# Altium integrated library TI Power Management Non Current Limited Load Switch.IntLib: 14 symbols
Pins are listed as number, name and electrical type; pins without a type are passive.

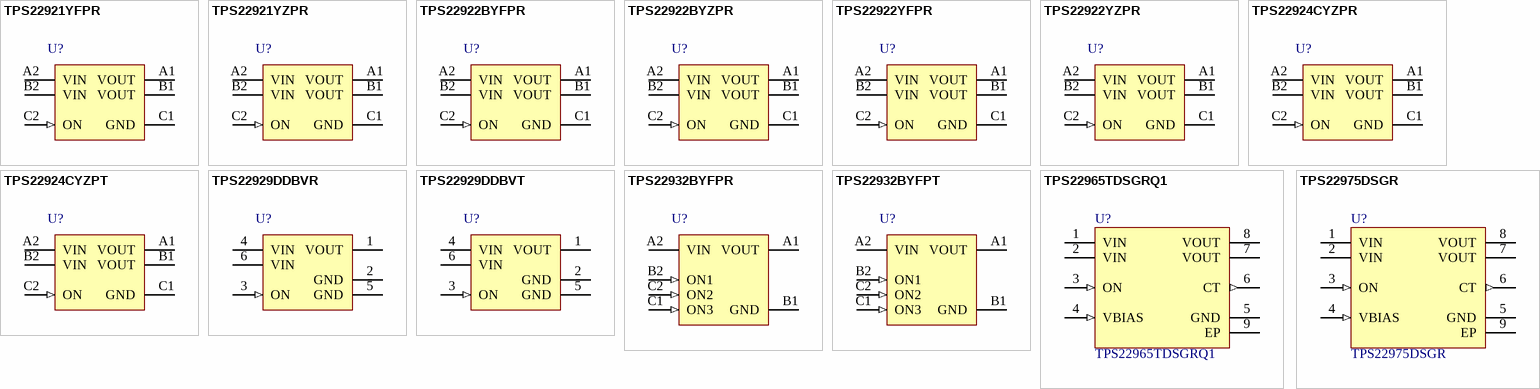
[diagram p0: symbols TPS22921YFPR to TPS22975DSGR]

## TPS22921YFPR
designator U?
Low Input Voltage Load Switch, 1.8 V Logic Compatible, 2 A, 0.9 to 3.6 V, 6-pin DSBGA (YFP), Green (RoHS & no Sb/Br); Manufacturer: Texas Instruments; PartNumber: TPS22921YFPR; Control Logic: 1.8-V Logic Compatible; HBM ESD(kV): 3; Iin(nA): 880; Imax(A): 2; Output Rise Time(µS): 30; rON @1.8V(mOhm): 75; SubFamily: Non Current Limited Load Switch; Vin(V): 0.9 - 3.6; DatasheetVersion: SLVS749A; PackageVersion: revQ, Sep-2011; PackageReference: YFP6; PackageDescription: 6-Ball Die-Size Ball Grid Array, 1.16 x 0.76 mm Body, 0.4 mm Pitch, Pb-Free; Supplier 1: Digi-Key; Supplier Part Number 1: 296-24675-2-ND; Supplier 2: Digi-Key; Supplier Part Number 2: 296-24675-1-ND; Supplier 3: Digi-Key; Supplier Part Number 3: 296-24675-6-ND; Supplier 4: Mouser; Supplier Part Number 4: 595-TPS22921YFPR; Eco-Plan: Green (RoHS & no Sb/Br); Quick Output Discharge Transistor: No; Mounting Technology: Surface Mount; ComponentLink1Description: Datasheet; ComponentLink1URL: http://www.ti.com/general/docs/lit/getliterature.tsp?genericPartNumber=TPS22921&fileType=pdf
footprint YFP6 (BGA, 6-Leads, Body 1.16x0.76mm, Pitch 0.4mm)
pins: A1 VOUT (power) "Switch output", A2 VIN (power) "Switch input", B1 VOUT (power) "Switch output", B2 VIN (power) "Switch input", C1 GND (power) "Ground", C2 ON (in) "Switch control input, active high. Do not leave floating"

## TPS22921YZPR
designator U?
Low Input Voltage Load Switch, 1.8 V Logic Compatible, 2 A, 0.9 to 3.6 V, 6-pin DSBGA (YFP), Green (RoHS & no Sb/Br); Manufacturer: Texas Instruments; PartNumber: TPS22921YZPR; Control Logic: 1.8-V Logic Compatible; HBM ESD(kV): 3; Iin(nA): 880; Imax(A): 2; Output Rise Time(µS): 30; rON @1.8V(mOhm): 75; SubFamily: Non Current Limited Load Switch; Vin(V): 0.9 - 3.6; DatasheetVersion: SLVS749A; PackageVersion: revI, Feb-2012; PackageReference: YZP6; PackageDescription: 6-Ball Die-Size Ball Grid Array, 1.4 x 0.9 mm Body, 0.5 mm Pitch, Pb-Free; Supplier 1: Digi-Key; Supplier Part Number 1: 296-24473-2-ND; Supplier 2: Digi-Key; Supplier Part Number 2: 296-24473-1-ND; Supplier 3: Digi-Key; Supplier Part Number 3: 296-24473-6-ND; Supplier 4: Newark; Supplier Part Number 4: 34P6475; Supplier 5: Mouser; Supplier Part Number 5: 595-TPS22921YZPR; Eco-Plan: Green (RoHS & no Sb/Br); Quick Output Discharge Transistor: No; Mounting Technology: Surface Mount; ComponentLink1Description: Datasheet; ComponentLink1URL: http://www.ti.com/general/docs/lit/getliterature.tsp?genericPartNumber=TPS22921&fileType=pdf
footprint YZP6 (BGA, 6-Leads, Body 1.4x0.9mm, Pitch 0.5mm)
pins: A1 VOUT (power) "Switch output", A2 VIN (power) "Switch input", B1 VOUT (power) "Switch output", B2 VIN (power) "Switch input", C1 GND (power) "Ground", C2 ON (in) "Switch control input, active high. Do not leave floating"

## TPS22922BYFPR
designator U?
Low Input Voltage, Ultra-Low RDS(ON) Load Switch, 1.8 V Logic Compatible, 2 A, 0.9 to 3.6 V, 6-pin DSBGA (YFP), Green (RoHS & no Sb/Br); Manufacturer: Texas Instruments; PartNumber: TPS22922BYFPR; Control Logic: 1.8-V Logic Compatible; HBM ESD(kV): 3; Iin(nA): 880; Imax(A): 2; Output Rise Time(µS): 200; Quick Output Discharge Transistor: Yes; rON @1.8V(mOhm): 75; SubFamily: Non Current Limited Load Switch; Vin(V): 0.9 - 3.6; DatasheetVersion: SLVS749A; PackageVersion: revQ, Sep-2011; PackageReference: YFP6; PackageDescription: 6-Ball Die-Size Ball Grid Array, 1.16 x 0.76 mm Body, 0.4 mm Pitch, Pb-Free; Supplier 1: Digi-Key; Supplier Part Number 1: 296-24676-2-ND; Supplier 2: Digi-Key; Supplier Part Number 2: 296-24676-1-ND; Supplier 3: Digi-Key; Supplier Part Number 3: 296-24676-6-ND; Supplier 4: Farnell; Supplier Part Number 4: 1755625; Supplier 5: Newark; Supplier Part Number 5: 99R2044; Supplier 6: Newark; Supplier Part Number 6: 52P6808; Supplier 7: Mouser; Supplier Part Number 7: 595-TPS22922BYFPR; Eco-Plan: Green (RoHS & no Sb/Br); Mounting Technology: Surface Mount; ComponentLink1Description: Datasheet; ComponentLink1URL: http://www.ti.com/general/docs/lit/getliterature.tsp?genericPartNumber=TPS22922B&fileType=pdf
footprint YFP6 (BGA, 6-Leads, Body 1.16x0.76mm, Pitch 0.4mm)
pins: A1 VOUT (power) "Switch output", A2 VIN (power) "Switch input", B1 VOUT (power) "Switch output", B2 VIN (power) "Switch input", C1 GND (power) "Ground", C2 ON (in) "Switch control input, active high. Do not leave floating"

## TPS22922BYZPR
designator U?
Low Input Voltage, Ultra-Low RDS(ON) Load Switch, 1.8 V Logic Compatible, 2 A, 0.9 to 3.6 V, -40 to 85 degC, 6-pin DSBGA (YZP), Green (RoHS & no Sb/Br); Manufacturer: Texas Instruments; PartNumber: TPS22922BYZPR; Control Logic: 1.8-V Logic Compatible; HBM ESD(kV): 3; Iin(nA): 880; Imax(A): 2; Output Rise Time(µS): 200; Quick Output Discharge Transistor: Yes; rON @1.8V(mOhm): 75; SubFamily: Non Current Limited Load Switch; Vin(V): 0.9 - 3.6; DatasheetVersion: SLVS749A; PackageVersion: revI, Feb-2012; PackageReference: YZP6; PackageDescription: 6-Ball Die-Size Ball Grid Array, 1.4 x 0.9 mm Body, 0.5 mm Pitch, Pb-Free; Supplier 1: Digi-Key; Supplier Part Number 1: 296-24097-2-ND; Supplier 2: Digi-Key; Supplier Part Number 2: 296-24097-1-ND; Supplier 3: Digi-Key; Supplier Part Number 3: 296-24097-6-ND; Supplier 4: Newark; Supplier Part Number 4: 45P8256; Supplier 5: Mouser; Supplier Part Number 5: 595-TPS22922BYZPR; Eco-Plan: Green (RoHS & no Sb/Br); Mounting Technology: Surface Mount; ComponentLink1Description: Datasheet; ComponentLink1URL: http://www.ti.com/general/docs/lit/getliterature.tsp?genericPartNumber=TPS22922B&fileType=pdf
footprint YZP6 (BGA, 6-Leads, Body 1.4x0.9mm, Pitch 0.5mm)
pins: A1 VOUT (power) "Switch output", A2 VIN (power) "Switch input", B1 VOUT (power) "Switch output", B2 VIN (power) "Switch input", C1 GND (power) "Ground", C2 ON (in) "Switch control input, active high. Do not leave floating"

## TPS22922YFPR
designator U?
Low Input Voltage, Ultra-Low RDS(ON) Load Switch, 1.8 V Logic Compatible, 0.9 to 3.6 V, 6-pin DSBGA (YFP), Green (RoHS & no Sb/Br); Manufacturer: Texas Instruments; PartNumber: TPS22922YFPR; Control Logic: 1.8-V Logic Compatible; HBM ESD(kV): 3; Iin(nA): 880; Imax(A): 2; Output Rise Time(µS): 30; Quick Output Discharge Transistor: Yes; rON @1.8V(mOhm): 75; SubFamily: Non Current Limited Load Switch; Vin(V): 0.9 - 3.6; DatasheetVersion: SLVS749A; PackageVersion: revQ, Sep-2011; PackageReference: YFP6; PackageDescription: 6-Ball Die-Size Ball Grid Array, 1.16 x 0.76 mm Body, 0.4 mm Pitch, Pb-Free; Supplier 1: Digi-Key; Supplier Part Number 1: 296-24677-2-ND; Supplier 2: Digi-Key; Supplier Part Number 2: 296-24677-1-ND; Supplier 3: Digi-Key; Supplier Part Number 3: 296-24677-6-ND; Supplier 4: Mouser; Supplier Part Number 4: 595-TPS22922YFPR; Eco-Plan: Green (RoHS & no Sb/Br); Mounting Technology: Surface Mount; ComponentLink1Description: Datasheet; ComponentLink1URL: http://www.ti.com/general/docs/lit/getliterature.tsp?genericPartNumber=TPS22922&fileType=pdf
footprint YFP6 (BGA, 6-Leads, Body 1.16x0.76mm, Pitch 0.4mm)
pins: A1 VOUT (power) "Switch output", A2 VIN (power) "Switch input", B1 VOUT (power) "Switch output", B2 VIN (power) "Switch input", C1 GND (power) "Ground", C2 ON (in) "Switch control input, active high. Do not leave floating"

## TPS22922YZPR
designator U?
Low Input Voltage, Ultra-Low RDS(ON) Load Switch, 1.8 V Logic Compatible, 0.9 to 3.6 V, 6-pin DSBGA (YFP), Green (RoHS & no Sb/Br); Manufacturer: Texas Instruments; PartNumber: TPS22922YZPR; Control Logic: 1.8-V Logic Compatible; HBM ESD(kV): 3; Iin(nA): 880; Imax(A): 2; Output Rise Time(µS): 30; Quick Output Discharge Transistor: Yes; rON @1.8V(mOhm): 75; SubFamily: Non Current Limited Load Switch; Vin(V): 0.9 - 3.6; DatasheetVersion: SLVS749A; PackageVersion: revI, Feb-2012; PackageReference: YZP6; PackageDescription: 6-Ball Die-Size Ball Grid Array, 1.4 x 0.9 mm Body, 0.5 mm Pitch, Pb-Free; Supplier 1: Digi-Key; Supplier Part Number 1: 296-24474-2-ND; Supplier 2: Digi-Key; Supplier Part Number 2: 296-24474-1-ND; Supplier 3: Digi-Key; Supplier Part Number 3: 296-24474-6-ND; Supplier 4: Newark; Supplier Part Number 4: 45P8257; Supplier 5: Mouser; Supplier Part Number 5: 595-TPS22922YZPR; Eco-Plan: Green (RoHS & no Sb/Br); Mounting Technology: Surface Mount; ComponentLink1Description: Datasheet; ComponentLink1URL: http://www.ti.com/general/docs/lit/getliterature.tsp?genericPartNumber=TPS22922&fileType=pdf
footprint YZP6 (BGA, 6-Leads, Body 1.4x0.9mm, Pitch 0.5mm)
pins: A1 VOUT (power) "Switch output", A2 VIN (power) "Switch input", B1 VOUT (power) "Switch output", B2 VIN (power) "Switch input", C1 GND (power) "Ground", C2 ON (in) "Switch control input, active high. Do not leave floating"

## TPS22924CYZPR
designator U?
Ultra Small, Low-Input Voltage, Ultra-Low rON Load Switch, 1.8-V Logic Compatible , 2 A, 0.75 to 3.6 V, -40 to 85 degC , 6-pin DSBGA (YZP), Green (RoHS & no Sb/Br); Manufacturer: Texas Instruments; PartNumber: TPS22924CYZPR; HBM ESD(kV): 5; Iin(nA): 350000; Imax(A): 2; Output Rise Time(µS): 800; Quick Output Discharge Transistor: Yes; rON @1.8V(mOhm): 19.6; SubFamily: Non Current Limited Load Switch; Vin(V): 0.75 - 3.6; DatasheetVersion: SLVSA52B; PackageVersion: revI, Feb-2012; PackageReference: YZP6; PackageDescription: 6-Ball Die-Size Ball Grid Array, 1.4 x 0.9 mm Body, 0.5 mm Pitch, Pb-Free; Supplier 1: Digi-Key; Supplier Part Number 1: 296-25510-2-ND; Supplier 2: Digi-Key; Supplier Part Number 2: 296-25510-1-ND; Supplier 3: Digi-Key; Supplier Part Number 3: 296-25510-6-ND; Supplier 4: Newark; Supplier Part Number 4: 64R0733; Supplier 5: Mouser; Supplier Part Number 5: 595-TPS22924CYZPR; Control Logic: 1.8-V Logic Compatible; Eco-Plan: Green (RoHS & no Sb/Br); Mounting Technology: Surface Mount; ComponentLink1Description: Datasheet; ComponentLink1URL: http://www.ti.com/general/docs/lit/getliterature.tsp?genericPartNumber=TPS22924C&fileType=pdf
footprint YZP6 (BGA, 6-Leads, Body 1.4x0.9mm, Pitch 0.5mm)
pins: A1 VOUT (power) "Switch output", A2 VIN (power) "Switch input, bypass this input with a ceramic capacitor to ground", B1 VOUT (power) "Switch output", B2 VIN (power) "Switch input, bypass this input with a ceramic capacitor to ground", C1 GND (power) "Ground", C2 ON (in) "Switch control input, active high. Do not leave floating"

## TPS22924CYZPT
designator U?
Ultra Small, Low-Input Voltage, Ultra-Low rON Load Switch, 1.8-V Logic Compatible , 2 A, 0.75 to 3.6 V, -40 to 85 degC , 6-pin DSBGA (YZP), Green (RoHS & no Sb/Br); Manufacturer: Texas Instruments; PartNumber: TPS22924CYZPT; HBM ESD(kV): 5; Iin(nA): 350000; Imax(A): 2; Output Rise Time(µS): 800; Quick Output Discharge Transistor: Yes; rON @1.8V(mOhm): 19.6; SubFamily: Non Current Limited Load Switch; Vin(V): 0.75 - 3.6; DatasheetVersion: SLVSA52B; PackageVersion: revI, Feb-2012; PackageReference: YZP6; PackageDescription: 6-Ball Die-Size Ball Grid Array, 1.4 x 0.9 mm Body, 0.5 mm Pitch, Pb-Free; Supplier 1: Digi-Key; Supplier Part Number 1: 296-25591-2-ND; Supplier 2: Digi-Key; Supplier Part Number 2: 296-25591-1-ND; Supplier 3: Digi-Key; Supplier Part Number 3: 296-25591-6-ND; Supplier 4: Farnell; Supplier Part Number 4: 1815762; Supplier 5: Newark; Supplier Part Number 5: 55R1361; Supplier 6: Mouser; Supplier Part Number 6: 595-TPS22924CYZPT; Control Logic: 1.8-V Logic Compatible; Eco-Plan: Green (RoHS & no Sb/Br); Mounting Technology: Surface Mount; ComponentLink1Description: Datasheet; ComponentLink1URL: http://www.ti.com/general/docs/lit/getliterature.tsp?genericPartNumber=TPS22924C&fileType=pdf
footprint YZP6 (BGA, 6-Leads, Body 1.4x0.9mm, Pitch 0.5mm)
pins: A1 VOUT (power) "Switch output", A2 VIN (power) "Switch input, bypass this input with a ceramic capacitor to ground", B1 VOUT (power) "Switch output", B2 VIN (power) "Switch input, bypass this input with a ceramic capacitor to ground", C1 GND (power) "Ground", C2 ON (in) "Switch control input, active high. Do not leave floating"

## TPS22929DDBVR
designator U?
Low Input Voltage, 1.8 A Single Channel Load Switch with Controlled Turn-On, 1.8 V Logic Compatible, 1.8 A, 1.4 to 5.5 V, -40 to 85 degC, 6-pin SOT-23 (DBV), Green (RoHS & no Sb/Br); Manufacturer: Texas Instruments; PartNumber: TPS22929DDBVR; Active High Enable: TRUE; Control Logic: 1.8-V Logic Compatible; HBM ESD(kV): 2; Iin(nA): 10000; Imax(A): 1.8; Output Rise Time(µS): 4500; Quick Output Discharge Transistor: Yes; rON @1.8V(mOhm): 85; SubFamily: Non Current Limited Load Switch; Vin(V): 1.4 - 5.5; DatasheetVersion: SLVSB39; PackageVersion: revK, Mar-2006; PackageReference: DBV6; PackageDescription: 6-Pin Plastic Small-Outline Package, 2.9 x 1.6 mm Body, 0.95 mm Pitch, 2.8 mm Lead Span; Supplier 1: Digi-Key; Supplier Part Number 1: TPS22929DDBVR-ND; Supplier 2: Newark; Supplier Part Number 2: 76T8103; Supplier 3: Mouser; Supplier Part Number 3: 595-TPS22929DDBVR; Eco-Plan: Green (RoHS & no Sb/Br); Mounting Technology: Surface Mount; Code_JEDEC: MO-178-AB*; ComponentLink1Description: Datasheet; ComponentLink1URL: http://www.ti.com/general/docs/lit/getliterature.tsp?genericPartNumber=TPS22929D&fileType=pdf
footprint DBV6_N (SOT23, 6-Leads, Body 2.9x1.6mm, Pitch 0.95mm, Lead Span 2.8mm, IPC Medium Density)
footprint DBV6_L (SOT23, 6-Leads, Body 2.9x1.6mm, Pitch 0.95mm, Lead Span 2.8mm, IPC High Density)
footprint DBV6_M (SOT23, 6-Leads, Body 2.9x1.6mm, Pitch 0.95mm, Lead Span 2.8mm, IPC Low Density)
pins: 1 VOUT (power) "Switch output", 2 GND (power) "Ground", 3 ON (in) "Switch control input, active high. Do not leave floating", 4 VIN (power) "Switch input, bypass this input with a ceramic capacitor to ground", 5 GND (power) "Ground", 6 VIN (power) "Switch input, bypass this input with a ceramic capacitor to ground"

## TPS22929DDBVT
designator U?
Low Input Voltage, 1.8 A Single Channel Load Switch with Controlled Turn-On, 1.8 V Logic Compatible, 1.8 A, 1.4 to 5.5 V, -40 to 85 degC, 6-pin SOT-23 (DBV), Green (RoHS & no Sb/Br); Manufacturer: Texas Instruments; PartNumber: TPS22929DDBVT; Active High Enable: TRUE; Control Logic: 1.8-V Logic Compatible; HBM ESD(kV): 2; Iin(nA): 10000; Imax(A): 1.8; Output Rise Time(µS): 4500; Quick Output Discharge Transistor: Yes; rON @1.8V(mOhm): 85; SubFamily: Non Current Limited Load Switch; Vin(V): 1.4 - 5.5; DatasheetVersion: SLVSB39; PackageVersion: revK, Mar-2006; PackageReference: DBV6; PackageDescription: 6-Pin Plastic Small-Outline Package, 2.9 x 1.6 mm Body, 0.95 mm Pitch, 2.8 mm Lead Span; Supplier 1: Digi-Key; Supplier Part Number 1: 296-30174-2-ND; Supplier 2: Digi-Key; Supplier Part Number 2: 296-30174-1-ND; Supplier 3: Digi-Key; Supplier Part Number 3: 296-30174-6-ND; Supplier 4: Farnell; Supplier Part Number 4: 2078552; Supplier 5: Newark; Supplier Part Number 5: 82T9722; Supplier 6: Newark; Supplier Part Number 6: 76T8104; Supplier 7: Mouser; Supplier Part Number 7: 595-TPS22929DDBVT; Eco-Plan: Green (RoHS & no Sb/Br); Mounting Technology: Surface Mount; Code_JEDEC: MO-178-AB*; ComponentLink1Description: Datasheet; ComponentLink1URL: http://www.ti.com/general/docs/lit/getliterature.tsp?genericPartNumber=TPS22929D&fileType=pdf
footprint DBV6_N (SOT23, 6-Leads, Body 2.9x1.6mm, Pitch 0.95mm, Lead Span 2.8mm, IPC Medium Density)
footprint DBV6_L (SOT23, 6-Leads, Body 2.9x1.6mm, Pitch 0.95mm, Lead Span 2.8mm, IPC High Density)
footprint DBV6_M (SOT23, 6-Leads, Body 2.9x1.6mm, Pitch 0.95mm, Lead Span 2.8mm, IPC Low Density)
pins: 1 VOUT (power) "Switch output", 2 GND (power) "Ground", 3 ON (in) "Switch control input, active high. Do not leave floating", 4 VIN (power) "Switch input, bypass this input with a ceramic capacitor to ground", 5 GND (power) "Ground", 6 VIN (power) "Switch input, bypass this input with a ceramic capacitor to ground"

## TPS22932BYFPR
designator U?
Low-Input Voltage, Ultra Low On Resistance Load Switch with Configurable Enable Logic, 1.8 V Logic Compatible, Configurable Logic, 0.5 A, 1.1 to 3.6 V, -40 to 85 degC, 6-pin DSBGA (YFP), Green (RoHS & no Sb/Br); Manufacturer: Texas Instruments; PartNumber: TPS22932BYFPR; Control Logic: 1.8-V Logic Compatible, Configurable Logic; HBM ESD(kV): 2; Iin(nA): 880; Imax(A): 0.5; Output Rise Time(µS): 165; Quick Output Discharge Transistor: Yes; rON @1.8V(mOhm): 110; SubFamily: Non Current Limited Load Switch; DatasheetVersion: SLVS802A; PackageVersion: revQ, Sep-2011; PackageReference: YFP6; PackageDescription: 6-Ball Die-Size Ball Grid Array, 1.16 x 0.76 mm Body, 0.4 mm Pitch, Pb-Free; Supplier 1: Digi-Key; Supplier Part Number 1: 296-25354-2-ND; Supplier 2: Digi-Key; Supplier Part Number 2: 296-25354-1-ND; Supplier 3: Digi-Key; Supplier Part Number 3: 296-25354-6-ND; Supplier 4: Mouser; Supplier Part Number 4: 595-TPS22932BYFPR; Eco-Plan: Green (RoHS & no Sb/Br); Vin(V): 1.1 to 3.6; Mounting Technology: Surface Mount; ComponentLink1Description: Datasheet; ComponentLink1URL: http://www.ti.com/general/docs/lit/getliterature.tsp?genericPartNumber=TPS22932B&fileType=pdf
footprint YFP6 (BGA, 6-Leads, Body 1.16x0.76mm, Pitch 0.4mm)
pins: A1 VOUT (power) "Switch output", A2 VIN (power) "Switch input, bypass this input with a ceramic capacitor to ground", B1 GND (power) "Ground", B2 ON1 (in) "Switch control input, active high - Do not leave floating", C1 ON3 (in) "Switch control input, active high - Do not leave floating", C2 ON2 (in) "Switch control input, active high - Do not leave floating"

## TPS22932BYFPT
designator U?
Low-Input Voltage, Ultra Low On Resistance Load Switch with Configurable Enable Logic, 1.8 V Logic Compatible, 0.5 A, 1.1 to 3.6 V, -40 to 85 degC, 6-pin DSBGA (YFP), Green (RoHS & no Sb/Br); Manufacturer: Texas Instruments; PartNumber: TPS22932BYFPT; Control Logic: 1.8-V Logic Compatible, Configurable Logic; HBM ESD(kV): 2; Iin(nA): 880; Imax(A): 0.5; Output Rise Time(µS): 165; Quick Output Discharge Transistor: Yes; rON @1.8V(mOhm): 110; SubFamily: Non Current Limited Load Switch; DatasheetVersion: SLVS802A; PackageVersion: revQ, Sep-2011; PackageReference: YFP6; PackageDescription: 6-Ball Die-Size Ball Grid Array, 1.16 x 0.76 mm Body, 0.4 mm Pitch, Pb-Free; Supplier 1: Digi-Key; Supplier Part Number 1: 296-25448-2-ND; Supplier 2: Digi-Key; Supplier Part Number 2: 296-25448-1-ND; Supplier 3: Digi-Key; Supplier Part Number 3: 296-25448-6-ND; Supplier 4: Farnell; Supplier Part Number 4: 1782838; Supplier 5: Newark; Supplier Part Number 5: 51R6141; Supplier 6: Mouser; Supplier Part Number 6: 595-TPS22932BYFPT; Eco-Plan: Green (RoHS & no Sb/Br); Vin(V): 1.1 to 3.6; Mounting Technology: Surface Mount; ComponentLink1Description: Datasheet; ComponentLink1URL: http://www.ti.com/general/docs/lit/getliterature.tsp?genericPartNumber=TPS22932B&fileType=pdf
footprint YFP6 (BGA, 6-Leads, Body 1.16x0.76mm, Pitch 0.4mm)
pins: A1 VOUT (power) "Switch output", A2 VIN (power) "Switch input, bypass this input with a ceramic capacitor to ground", B1 GND (power) "Ground", B2 ON1 (in) "Switch control input, active high - Do not leave floating", C1 ON3 (in) "Switch control input, active high - Do not leave floating", C2 ON2 (in) "Switch control input, active high - Do not leave floating"

## TPS22965TDSGRQ1
designator U?
Supplier 1: Digi-Key; Value: TPS22965TDSGRQ1; Supplier Part Number 1: 296-38290-1-ND
footprint SON50P200X80_HS-9N (SON, 8-Leads, Body 2,00x2,00mm, Pitch 0,50mm, Thermal Pad 1,60x0,69mm, IPC Medium Density)
pins: 1 VIN, 2 VIN, 3 ON (in), 4 VBIAS (in), 5 GND, 6 CT (out), 7 VOUT, 8 VOUT, 9 EP

## TPS22975DSGR
designator U?
IC LOAD SWITCH N-CH 6A 8WSON; Manufacturer 1: Texas Instruments; Number of Channels: 1; Supplier 1: Digi-Key; Manufacturer Part Number 1: TPS22975DSGR; Stock 1: 7840; Pricing 1: 1=0,58000, 10=0,51000, 100=0,39090, 500=0,30900, 1000=0,24720 (USD); RoHS: No; Min Operating Temperature: -40°C; Max Operating Temperature: 105°C; Lead Free: Lead Free; ComponentLink1URL: http://www.ti.com/lit/ds/symlink/tps22975.pdf?src-supplier=Digi-Key; ComponentLink1Description: http://www.ti.com/lit/ds/symlink/tps22975.pdf?src-supplier=Digi-Key; Value: TPS22975DSGR; Supplier Part Number 1: 296-47228-1-ND
footprint SON50P200X80_HS-9N (SON, 8-Leads, Body 2,00x2,00mm, Pitch 0,50mm, Thermal Pad 1,60x0,69mm, IPC Medium Density)
pins: 1 VIN, 2 VIN, 3 ON (in), 4 VBIAS (in), 5 GND, 6 CT (out), 7 VOUT, 8 VOUT, 9 EP